# Altium schematic symbol library RFD900.SchLib: 1 symbol
Pins are listed as number, name and electrical type; pins without a type are passive.

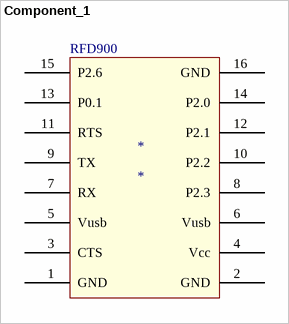
[diagram p0: symbol Component_1]

## Component_1
designator *
footprint PCBComponent_1
pins: 1 GND, 2 GND, 3 CTS, 4 Vcc, 5 Vusb, 6 Vusb, 7 RX, 8 P2.3, 9 TX, 10 P2.2, 11 RTS, 12 P2.1, 13 P0.1, 14 P2.0, 15 P2.6, 16 GND
text: RFD900